# Altium schematic symbol library M_Derogarian Altium Library.SchLib: 43 symbols
Pins are listed as number, name and electrical type; pins without a type are passive.

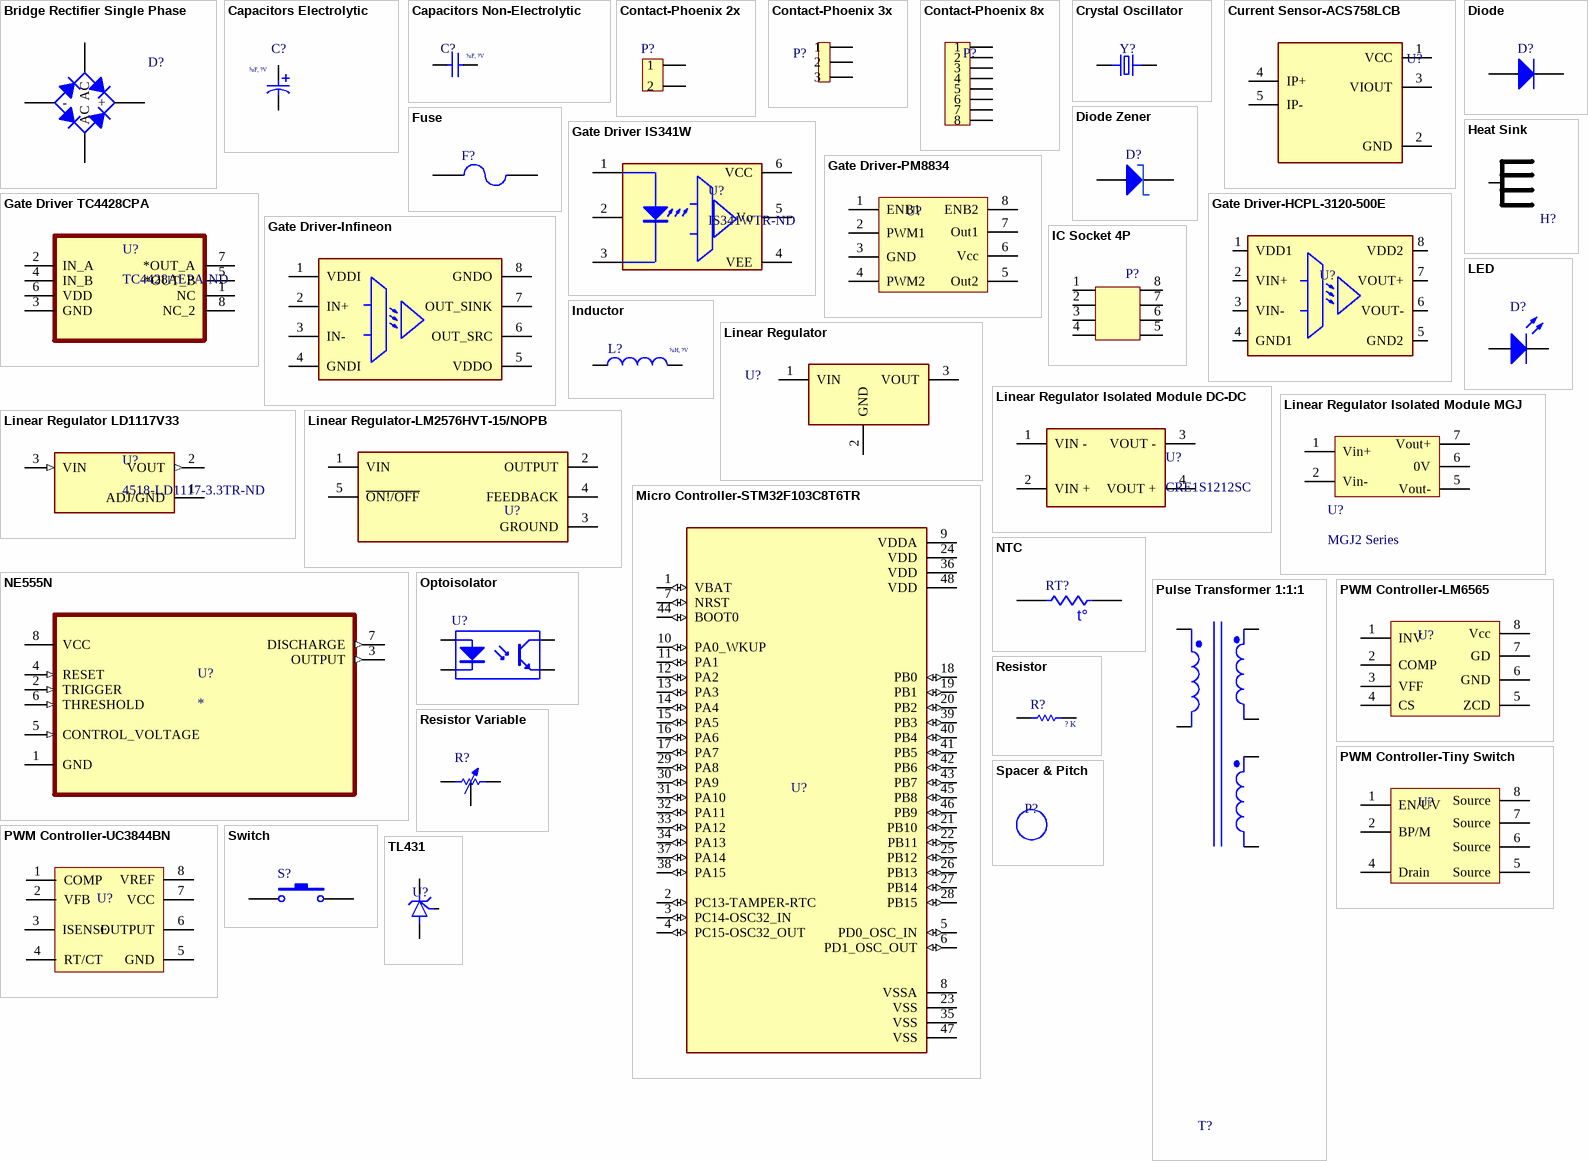
[diagram p0: symbols Bridge Rectifier Single Phase to TL431]

## Bridge Rectifier Single Phase
designator D?, comment (DIGIKEY Part Number)  (value not drawn)
Bridge Rectifier Single Phase Standard; Published: 8-Jun-2000; LatestRevisionDate: 29-May-2009; LatestRevisionNote: Sch pins A & K swapped.; DatasheetVersion: E2732B; PackageReference: D-38; Publisher: Altium Limited; PackageDescription: Bridge Rectifier; 4 Terminals; Body 9.4 x 9.4 mm (typ); Pitch 5.08 mm; Supplier 1: Future Electronics; Supplier Part Number 1: 6113720
footprint Bridge Rectifier 1Phase 400V 1A WOG
footprint Bridge Rectifier 1Phase 600V 2A GBJ
footprint Bridge Rectifier 1Phase 600V 10A GBJ
pins: 1 AC, 2 AC, 3 -, 4 +

## Capacitors Electrolytic
designator C?, comment value ?uF, ?V  (hidden comment: (DIGIKEY Part Number))
Aluminum Electrolytic Capacitors; MF: Nichicon; MP: UVR2A471MHD; Price: None; Package: Radial Nichicon; SnapEDA_Link: https://www.snapeda.com/parts/UVR2A471MHD/Nichicon/view-part/2302933/?ref=snap; Availability: Unavailable; Supplier 1: Digi-Key; Supplier Part Number 1: 1189-2012-ND
footprint Capacitor Aluminum Electrolytic DIP 5*7.5*2.5
footprint Capacitor Aluminum Electrolytic DIP 5*12*2.5
footprint Capacitor Aluminum Electrolytic DIP 7.5*7.5*2.5
footprint Capacitor Aluminum Electrolytic DIP 8*11.5*3.5
footprint Capacitor Aluminum Electrolytic DIP 10*13*5
footprint Capacitor Aluminum Electrolytic DIP 10*16.5*5
footprint Capacitor Aluminum Electrolytic DIP 10*20*5
footprint Capacitor Aluminum Electrolytic DIP 12.5*27*5
footprint Capacitor Aluminum Electrolytic DIP 20*31*10
footprint Capacitor Aluminum Electrolytic DIP 20*36.5*10
footprint Capacitor Aluminum Electrolytic DIP 35*40*10
footprint Capacitor Aluminum Electrolytic DIP 35*50*10
footprint Capacitor Aluminum Electrolytic DIP 20*40*10
pins: 1, 2

## Capacitors Non-Electrolytic
designator C?, comment value ?uF, ?V  (hidden comment: (DIGIKEY Part Number))
Ceramic & Polyester Capacitor
footprint Capacitor Ceramic Lens DIP
footprint Capacitor Ceramic Multilayer DIP
footprint Capacitor Ceramic SMD 805
footprint Capacitor Ceramic SMD 1206
footprint Capacitor Polyester High Voltage DIP
footprint Capacitor Film DIP 01
footprint Capacitor Film DIP 02
footprint Capacitor Film DIP 03
footprint Capacitor Film DIP 04
footprint Capacitor Film DIP 05
footprint Capacitor Film DIP 06
pins: 1, 2

## Contact-Phoenix 2x
designator P?, comment (DIGIKEY Part Number)  (value not drawn)
Contact-Phoenix 2x; Manufacturer: Phoenix Contact; Manufacturer Part Number: 1715721; Max Current Rating: 22A; Number of Poles: 2; Voltage Rating: 400V; Max Supply Voltage: 250V; Current Rating: 17.5A; Number of Levels: 1; Current: 15A; Voltage: 300V; Connector Type: Screw,Terminal Block,PCB; Test Voltage: 4kV; Wire Gauge (Max): 26AWG; Wire/Cable Gauge: 14AWG; Pitch: 5.08mm; Stripping Length: 7mm; Approvals: UL,CSA,cULus,EAC; Supplier 1: Digi-Key; RoHS: Yes; Category: Terminal Blocks; Stock 1: 4962; Pricing 1: 1=1.39000, 10=1.33400, 50=1.27600, 100=1.24120, 250=1.16000, 500=1.06720, 1000=0.98600, 2500=0.93960, 5000=0.89320 (USD); Mount: Through Hole; Number of Pins: 2; Color: Green; Weight: 0.103705oz; Housing Color: Green; Housing Material: Polyamide; Insulation Material: Nylon; Contact Material: Tin; Min Operating Temperature: -20°C; Max Operating Temperature: 100°C; Number of Rows: 1; Package Quantity: 50; Voltage Rating (AC): 250V; Packaging: Bulk; Number of Positions: 2; Termination: Screw; Number of Positions Per Level: 2; Number of Contacts: 2; Number of Circuits: 2; Orientation: Straight; Series: MKDS; Length: 10.16mm; Width: 17.3mm; Height: 17.3mm; Wire Gauge (Min): 26AWG; Depth: 9.8mm; Radiation Hardening: No; REACH SVHC: No SVHC; Lead Free: Lead Free; Flammability Rating: UL94 V-0; RoHS Compliant: Yes; ComponentLink1URL: https://datasheet.ciiva.com/16046/1715721-16046034.pdf?src-supplier=Onlinecomponents.com; ComponentLink1Description: https://datasheet.ciiva.com/16046/1715721-16046034.pdf?src-supplier=Onlinecomponents.com; ComponentLink2URL: https://datasheet.ciiva.com/1120/1697161-1120393.pdf?src-supplier=Farnell; ComponentLink2Description: https://datasheet.ciiva.com/1120/1697161-1120393.pdf?src-supplier=Farnell; ComponentLink3URL: https://datasheet.ciiva.com/15169/getdatasheetpartid-212174-15169929.pdf?src-supplier=Verical; ComponentLink3Description: https://datasheet.ciiva.com/15169/getdatasheetpartid-212174-15169929.pdf?src-supplier=Verical; ComponentLink4URL: https://datasheet.ciiva.com/832/1715721-832095.pdf?src-supplier=Digi-Key; ComponentLink4Description: https://datasheet.ciiva.com/832/1715721-832095.pdf?src-supplier=Digi-Key; Supplier Part Number 1: 277-1263-ND
footprint Phoenix Contact 2x Male Straight
footprint Header 01 1x2
footprint Phoenix Contact 2x2 Male Straight
pins: 1 (power), 2 (power)

## Contact-Phoenix 3x
designator P?, comment (DIGIKEY Part Number)  (value not drawn)
Contact-Phoenix 3x; Manufacturer: Phoenix Contact; Manufacturer Part Number: 1888690; Number of Poles: 3; Current Rating: 16A; Voltage Rating: 400V; Number of Levels: 1; Current: 20A; Voltage: 300V; Connector Type: Screw; Wire Gauge (Max): 30AWG; Wire Gauge (Min): 12AWG; Pitch: 5.08mm; Approvals: UL,VDE,cULus,CB,EAC; Supplier 1: RSComponents; RoHS: Yes; Category: Terminal Blocks; Stock 1: 1; Pricing 1: 250=1.46600 (USD); Mount: Through Hole; Number of Pins: 3; Color: Green; Weight: 0.153442oz; Housing Color: Green; Housing Material: Nylon; Contact Material: Tin; Package Quantity: 50; Packaging: Bulk; Number of Positions Per Level: 3; Termination: Screw; Number of Positions: 3; Number of Contacts: 3; Number of Circuits: 3; Orientation: Straight; Series: COMBICON MKDSN; Length: 9.5mm; Width: 18.5mm; Height: 15.24mm; Wire/Cable Gauge: 30AWG; Lead Free: Lead Free; Flammability Rating: UL94 V-0; REACH SVHC: Unknown; ComponentLink1URL: https://datasheet.ciiva.com/16047/1888690-16047140.pdf?src-supplier=Onlinecomponents.com; ComponentLink1Description: https://datasheet.ciiva.com/16047/1888690-16047140.pdf?src-supplier=Onlinecomponents.com; ComponentLink2URL: https://datasheet.ciiva.com/6745/1888690-6745529.pdf?src-supplier=Digi-Key; ComponentLink2Description: https://datasheet.ciiva.com/6745/1888690-6745529.pdf?src-supplier=Digi-Key; Supplier Part Number 1: 8717582
footprint Phoenix Contact 3x Male Straight
footprint Header 01 1x3
pins: 1 (power), 2 (power), 3 (power)

## Contact-Phoenix 8x
designator P?, comment (DIGIKEY Part Number)  (value not drawn)
Contact-Phoenix 8x; Manufacturer: Phoenix Contact; Manufacturer Part Number: 1758076; Max Current Rating: 12A; Voltage Rating (DC): 250V; Number of Poles: 8; Number of Levels: 1; Voltage: 300V; Pitch: 5.08mm; Pin Diameter: 1.4mm; Approvals: UL,CSA; Supplier 1: Digi-Key; RoHS: Yes; Category: Terminal Blocks; Stock 1: 41; Pricing 1: 1=2.75000, 10=2.62900, 50=2.55720, 100=2.39000, 250=2.19880, 500=2.03150, 1000=1.93590, 2500=1.84030 (USD); Mount: Through Hole; Contact Plating: Tin; Weight: 5.43219oz; Contact Material: Tin,Copper; Housing Color: Green; Housing Material: Polybutylene; Color: Green,Grey; Termination: Solder; Package Quantity: 50; Packaging: Bulk; Number of Rows: 1; Current Rating: 12A; Orientation: Straight; Series: MSTBV; Voltage Rating: 250V; Number of Positions Per Level: 8; Current: 12A; Number of Positions: 8; Number of Contacts: 8; Length: 40.64mm; Width: 40.64mm; Height: 15.9mm; Depth: 8.6mm; Lead Free: Lead Free; RoHS Compliant: Yes; Flammability Rating: UL94 V-0; ComponentLink1URL: https://datasheet.ciiva.com/16096/1758076-16096453.pdf?src-supplier=Onlinecomponents.com; ComponentLink1Description: https://datasheet.ciiva.com/16096/1758076-16096453.pdf?src-supplier=Onlinecomponents.com; ComponentLink2URL: https://datasheet.ciiva.com/15197/getdatasheetpartid-176364-15197352.pdf?src-supplier=Verical; ComponentLink2Description: https://datasheet.ciiva.com/15197/getdatasheetpartid-176364-15197352.pdf?src-supplier=Verical; ComponentLink3URL: https://datasheet.ciiva.com/796/1758076-796755.pdf?src-supplier=Digi-Key; ComponentLink3Description: https://datasheet.ciiva.com/796/1758076-796755.pdf?src-supplier=Digi-Key; ComponentLink4URL: https://datasheet.ciiva.com/29212/743684-da-01-de-grundgehaeuse-mstbv-2-5-8-g-5-08-29212227.pdf?src-supplier=Conrad; ComponentLink4Description: https://datasheet.ciiva.com/29212/743684-da-01-de-grundgehaeuse-mstbv-2-5-8-g-5-08-29212227.pdf?src-supplier=Conrad; ComponentLink5URL: https://datasheet.ciiva.com/20205/51-4828-20205398.pdf?src-supplier=Rapid+Electronics; ComponentLink5Description: https://datasheet.ciiva.com/20205/51-4828-20205398.pdf?src-supplier=Rapid+Electronics; Supplier Part Number 1: 277-1134-ND
footprint Phoenix Contact 8x Male Right
pins: 1 (power), 2 (power), 3 (power), 4 (power), 5 (power), 6 (power), 7 (power), 8 (power)

## Crystal Oscillator
designator Y?, comment (DIGIKEY Part Number)  (value not drawn)
Crystal Oscillator; MF: ECS Inc.; MP: ECS-80-18-1X; SnapEDA_Link: https://www.snapeda.com/parts/ECS-80-18-1X/ECS%20Inc./view-part/2730598/?ref=snap; Price: None; Package: HC49/U ECS International; Availability: Unavailable; Value: *
footprint Crystal Oscillator DIP 01
footprint Crystal Oscillator SMD 01
footprint Crystal Oscillator SMD 02
pins: 1, 2

## Current Sensor-ACS758LCB
designator U?, comment ACS758LCB-100B-PFF-T  (value not drawn)
Open Loop Current Sensor AC/DC Current 5V Automotive 5-Pin Case CB-PFF Tube; Manufacturer: Allegro MicroSystems; Max Supply Voltage: 5.5V; Min Supply Voltage: 3V; Output Current: 1mA; Number of Channels: 1; Frequency: 120kHz; Response Time: 4us; Max Supply Current: 13.5mA; Polarity: Bidirectional; Quiescent Current: 10mA; Linearity: 1.25%; Accuracy: 2.4%; Current Sensing: 100A; Sensitivity: 20mV/A; Supplier 1: RSComponents; Manufacturer Part Number: ACS758LCB-100B-PFF-T; RoHS: Yes; Category: Current Sensors; Stock 1: 12; Pricing 1: 1=8.18000, 25=6.70000, 100=5.66000, 250=4.92000, 500=4.71000 (GBP); Mount: Through Hole; Number of Pins: 5; Min Operating Temperature: -40°C; Max Operating Temperature: 150°C; Operating Supply Voltage: 5V; Packaging: Rail/Tube; Package Quantity: 34; Bandwidth: 120kHz; Series: -; Length: 10mm; Width: 13mm; Height: 7mm; Radiation Hardening: No; REACH SVHC: No SVHC; RoHS Compliant: Yes; ComponentLink1URL: https://datasheet.ciiva.com/15099/getdatasheetpartid-480093-15099510.pdf?src-supplier=Verical; ComponentLink1Description: https://datasheet.ciiva.com/15099/getdatasheetpartid-480093-15099510.pdf?src-supplier=Verical; ComponentLink2URL: https://datasheet.ciiva.com/1578/acs758-datasheet-1578386.pdf?src-supplier=Farnell; ComponentLink2Description: https://datasheet.ciiva.com/1578/acs758-datasheet-1578386.pdf?src-supplier=Farnell; ComponentLink3URL: https://datasheet.ciiva.com/3271/acs756-datasheet-3271998.pdf?src-supplier=Avnet; ComponentLink3Description: https://datasheet.ciiva.com/3271/acs756-datasheet-3271998.pdf?src-supplier=Avnet; Supplier Part Number 1: 6807557
footprint Current Sensor XDCR_ACS770KCB-150U-PFF-T
pins: 1 VCC (power), 2 GND (power), 3 VIOUT (power), 4 IP+ (power), 5 IP- (power)

## Diode
designator D?, comment (DIGIKEY Part Number)  (value not drawn)
Through Hole & SMD Diode; Published: 8-Jun-2000; LatestRevisionDate: 17-Jul-2002; LatestRevisionNote: Re-released for DXP Platform.; DatasheetVersion: Aug-1984; PackageReference: DO-201AD; Publisher: Altium Limited; PackageDescription: Diode, Axial; Body 9.5 x 5.3 mm (LxDia. max), Lead Dia. 1.32 mm (max); ComponentLink1Description: Manufacturer Link; ComponentLink1URL: http://www.irf.com/
footprint Diode DIP DO-41 01
footprint Diode DIP DO-41 02
footprint Diode DIP TO-247
footprint Diode SMD DO-214
footprint Diode SMD Mini-MELF 01
footprint Diode SMD Mini-MELF 02
footprint Diode SMD POWERDI5
footprint Diode SMD SOD-123
footprint Diode DIP ITO-220AC
footprint Diode SMD TO-252 (DPAK)
pins: 1 A, 2 K

## Diode Zener
designator D?, comment (DIGIKEY Part Number)  (value not drawn)
Through Hole & SMD Zener Diode; Note: Terminal 2 is the TAB and is electrically connected to the cathode; Published: 8-Jun-2000; LatestRevisionDate: 17-Jul-2002; LatestRevisionNote: Re-released for DXP Platform.; DatasheetVersion: Dec-1997; PackageVersion: Feb-1998; PackageReference: TO-220AC; Publisher: Altium Limited; PackageDescription: TO, Thru-Hole, Vertical, Heatsink Mounted; 3 In-Line Leads (1 Absent); Pitch 2.54 mm; ComponentLink1Description: Manufacturer Link; ComponentLink1URL: http://www.irf.com/; ComponentLink2Description: Datasheet; ComponentLink2URL: http://www.irf.com/product-info/datasheets/data/18tq.pdf
footprint Diode Zener DIP
footprint Diode Zener SMD Mini-MELF 01
footprint Diode Zener SMD Mini-MELF 02
footprint Diode Zener SMD Mini-MELF 03
footprint Diode Zener SMD SOD-123 01
footprint Diode Zener SMD DO-214AC
pins: 1 A, 2 K

## Fuse
designator F?, comment (DIGIKEY Part Number)  (value not drawn)
Fuse, Circuit Protection; Published: 8-Jun-2000; LatestRevisionDate: 17-Jul-2002; LatestRevisionNote: Re-released for DXP Platform.; PackageReference: PIN-W2/E2.8; Publisher: Altium Limited; PackageDescription: Thru-Hole; 2 Leads; Supplier 1: Digi-Key; Supplier Part Number 1: 031501.2HXP-ND
footprint Fuse Full DIP 02
footprint Fuse DIP 01
footprint Fuse Full DIP 01
footprint Fuse Right DIP 01
pins: 1, 2

## Gate Driver IS341W
designator U?, comment IS341WTR-ND
Photocoupler is ideally suited for driving power IGBTs and MOSFETs; Manufacturer: Isocom; Manufacturer Part Number: IS341W; Supplier: Digikey; Supplier Part Number: IS341WCT-ND; RoHS: Yes; Stock: 232; Pricing: 1=2.2, 10=1.429, 100=1.0327, 500=0.87664 (USD); ComponentLink1URL: http://isocom.com/wp-content/uploads/2017/08/DD93205_IS341W_17-01-17.pdf?src-supplier=Digikey; ComponentLink1Description: http://isocom.com/wp-content/uploads/2017/08/DD93205_IS341W_17-01-17.pdf?src-supplier=Digikey
footprint Gate Driver IS341W SO6 Stretched
pins: 1, 2, 3, 4 VEE, 5 Vo, 6 VCC

## Gate Driver TC4428CPA
designator U?, comment TC4428AEPA-ND
Low-Side Gate Driver IC Inverting, Non-Inverting 8-PDIP; MP: TC4428CPA; MF: Microchip; Digi-Key_Part_Number: TC4428CPA-ND; Package: DIP-8 Microchip; SnapEDA_Link: https://www.snapeda.com/parts/TC4428CPA/Microchip/view-part/442163/?ref=snap; Value: *
footprint Gate Driver TC4428AEPA DIP 01
pins: 1 NC, 2 IN_A, 3 GND, 4 IN_B, 5 *OUT_B, 6 VDD (power), 7 *OUT_A, 8 NC_2

## Gate Driver-HCPL-3120-500E
designator U?, comment HCPL-3120-500E  (value not drawn)
OPTOISO 3.75KV GATE DRVR 8DIP GW; Manufacturer: Broadcom Avago; Propagation Delay: 500ns; Number of Channels: 1; Forward Voltage: 1.5V; High Level Output Current: 2A; Pulse Width Distortion (PWD): 300ns; Max Output Current: 2.5A; Max Power Dissipation: 295mW; Direction: Unidirectional; Forward Current: 25mA; Reverse Breakdown Voltage: 5V; Output Voltage: 30V; Fall Time: 0.1us; Input Current: 16mA; Output Type: PUSH-PULL; Input Type: DC; Approvals: UR,CSA; Supplier 1: Newark; Manufacturer Part Number: HCPL-3120-500E; RoHS: Yes; Category: Optocouplers; Stock 1: 3; Pricing 1: 1=4.16000, 10=2.95000, 25=2.76000, 50=2.59000 (USD); Mount: Surface Mount; Case/Package: SMD/SMT; Number of Pins: 8; Contact Plating: Tin,Matte; Min Operating Temperature: -40°C; Max Operating Temperature: 100°C; Packaging: Tape and Reel; Low Level Output Current: 2A; Isolation Voltage: 3.75kV; Package Quantity: 1; Turn-On Delay Time: 500ns; Power Dissipation: 295mW; Number of Elements: 1; Series: -; Radiation Hardening: No; REACH SVHC: No SVHC; Lead Free: Lead Free; RoHS Compliant: Yes; ComponentLink1URL: https://datasheet.ciiva.com/34302/1550485-34302471.pdf?src-supplier=Jameco; ComponentLink1Description: https://datasheet.ciiva.com/34302/1550485-34302471.pdf?src-supplier=Jameco; ComponentLink2URL: https://datasheet.ciiva.com/15119/getdatasheetpartid-111146-15119641.pdf?src-supplier=Verical; ComponentLink2Description: https://datasheet.ciiva.com/15119/getdatasheetpartid-111146-15119641.pdf?src-supplier=Verical; Supplier Part Number 1: 52M7954
footprint Gate Driver HCPL3120 SMD 01
footprint Gate Driver HCPL3120 DIP 01
pins: 1 VDD1 (power), 2 VIN+ (power), 3 VIN- (power), 4 GND1 (power), 5 GND2 (power), 6 VOUT- (power), 7 VOUT+ (power), 8 VDD2 (power)

## Gate Driver-Infineon
designator U?, comment 1EDB8275FXUMA1  (value not drawn)
Gate Driver Ic, 1-Ch, 3V-15V, 9.8A, Dso Rohs Compliant: Yes |Infineon 1EDB8275FXUMA1; Fall Time: 5ns; Max Supply Voltage: 15V; Min Supply Voltage: 3V; Number of Drivers: 1NUMBER; Output Current: 9A; Output Voltage: 20V; Propagation Delay: 45ns; Rise Time: 8.3ns; Supplier: Mouser; Supplier Part Number: 726-1EDB8275FXUMA1; Manufacturer: Infineon; Manufacturer Part Number: 1EDB8275FXUMA1; RoHS: No; Stock: 9492; Pricing: 1=1.9, 10=1.28, 50=1.28, 100=1.14, 1000=0.999, 10000=0.952 (USD); Min Operating Temperature: -40°C; Max Operating Temperature: 150°C; Number of Outputs: 1NUMBER; Height: 1.75mm
footprint Gate Driver 1EDB8275FXUMA1 SMD 01
pins: 1 VDDI, 2 IN+, 3 IN-, 4 GNDI, 5 VDDO, 6 OUT_SRC, 7 OUT_SINK, 8 GNDO

## Gate Driver-PM8834
designator U?, comment IC GATE DRVR LOW-SIDE 8SOIC  (value not drawn)
Low-Side Gate Driver IC Non-Inverting 8-SOIC; Supplier 1: RSComponents; Supplier Part Number 1: 1465693
footprint Gate Driver PM8834 SMD SO-8
pins: 1 ENB1, 2 PWM1, 3 GND, 4 PWM2, 5 Out2, 6 Vcc, 7 Out1, 8 ENB2

## Heat Sink
designator H?, comment (DIGIKEY Part Number)  (value not drawn)
Heat Sink TO-220 Aluminum 20.0W @ 60Â°C Board Level, Vertical; MP: 530002B02500G; MF: Aavid Thermalloy; Value: *; SnapEDA_Link: https://www.snapeda.com/parts/530002B02500G/Aavid+Thermalloy/view-part/?ref=snap; Purchase-URL: https://pricing.snapeda.com/search/part/530002B02500G/?ref=eda; Check_prices: https://www.snapeda.com/parts/530002B02500G/Aavid+Thermalloy/view-part/?ref=eda; Availability: In Stock; Price: None; Package: None
footprint HEATSINK 01
footprint HEATSINK 02
footprint HEATSINK 03
footprint HEATSINK 05
footprint HEATSINK 04

## IC Socket 4P
designator P?, comment (DIGIKEY Part Number)  (value not drawn)
4*2 IC Socket
footprint IC Socket 4*2P
pins: 1, 2, 3, 4, 5, 6, 7, 8

## Inductor
designator L?, comment value ?uH, ?V  (hidden comment: (DIGIKEY Part Number))
Inductor; Code_IEC: 1005; Published: 8-Jun-2000; LatestRevisionDate: 29-May-2009; LatestRevisionNote: IPC-7351 Footprint Added.; PackageReference: 0402-A; Publisher: Altium Limited; PackageDescription: Chip Inductor; Code_JEITA: 0402
footprint Inductor DIP 01
footprint Inductor DIP 02
footprint Inductor DIP Axial
pins: 1, 2

## LED
designator D?, comment (DIGIKEY Part Number)  (value not drawn)
Typical RED, GREEN, YELLOW, AMBER GaAs LED; Published: 8-Jun-2000; LatestRevisionDate: 17-Jul-2002; LatestRevisionNote: Re-released for DXP Platform.; PackageVersion: Feb-2002; PackageReference: 3.2X1.6X1.1; Publisher: Altium Limited; PackageDescription: SM LED; 2 Flat Leads
footprint LED DIP 01
footprint LED SMD 805 01
pins: 1 A, 2 K

## Linear Regulator
designator U?, comment (DIGIKEY Part Number)  (value not drawn)
Voltage Regulators - Linear, Low Drop Out (LDO) Regulators; Manufacturer: STMicroelectronics; Manufacturer Part Number: LD1117DT33; Dropout Voltage: 1.1V; Max Input Voltage: 15V; Output Current: 950mA; Number of Outputs: 1; Max Power Dissipation: 12W; Output Voltage: 3.3V; Min Input Voltage: 5.3V; Max Output Current: 800mA; Min Supply Voltage: 4.75V; Input Bias Current: 5mA; Polarity: Positive; Quiescent Current: 10mA; Output Voltage Accuracy: 1%; Output Type: Fixed; Supplier 1: Mouser; RoHS: Yes; Category: Voltage Regulators - Linear; Mount: Surface Mount; Case/Package: TO-252; Number of Pins: 3; Min Operating Temperature: 0°C; Max Operating Temperature: 125°C; Package Quantity: 75; Packaging: Rail/Tube; Max Supply Voltage: 15V; Nominal Output Voltage: 3.3V; Number of Regulators: 1; Power Dissipation: 12W; Max Output Voltage: 3.3V; Termination: SMD/SMT; Voltage: 3.3V; REACH SVHC: No SVHC; RoHS Compliant: Yes; ComponentLink1URL: https://datasheet.ciiva.com/2070/cd00000544-2070990.pdf?src-supplier=Digi-Key; ComponentLink1Description: https://datasheet.ciiva.com/2070/cd00000544-2070990.pdf?src-supplier=Digi-Key; Supplier Part Number 1: 511-LD1117DT33
footprint Linear Regulator SMD TO-252-3
footprint Linear Regulator SMD TO-263
footprint Linear Regulator DIP TO-220-3
pins: 1 VIN (power), 2 GND (power), 3 VOUT (power)

## Linear Regulator Isolated Module DC-DC
designator U?, comment CRE1S1212SC
Module DC-DC 12VIN 1-OUT 12V 0.083A 1W 4-Pin SIP Module Tube; Manufacturer: Murata; Supplier: Mouser; Supplier Part Number: 580-CRE1S1212SC; Manufacturer Part Number: CRE1S1212SC; RoHS: Yes; Category: Board Mount Modules; Stock: 95; Pricing: 1=2.98, 10=2.94, 50=2.66, 100=2.66, 1000=2.52, 10000=2.52 (USD); ComponentLink1URL: http://www.farnell.com/datasheets/2625583.pdf?src-supplier=Farnell; ComponentLink1Description: http://www.farnell.com/datasheets/2625583.pdf?src-supplier=Farnell; ComponentLink2URL: http://www.farnell.com/datasheets/2625583.pdf?src-supplier=Newark; ComponentLink2Description: http://www.farnell.com/datasheets/2625583.pdf?src-supplier=Newark; ComponentLink3URL: https://datasheet.octopart.com/CRE1S1212SC-Murata-Power-Solutions-datasheet-68519345.pdf?src-supplier=Element14; ComponentLink3Description: https://datasheet.octopart.com/CRE1S1212SC-Murata-Power-Solutions-datasheet-68519345.pdf?src-supplier=Element14; ComponentLink4URL: https://power.murata.com/data/power/ncl/kdc_cre1.pdf?src-supplier=Digikey; ComponentLink4Description: https://power.murata.com/data/power/ncl/kdc_cre1.pdf?src-supplier=Digikey; ComponentLink5URL: https://datasheet.octopart.com/CRE1S1212SC-Murata-Power-Solutions-datasheet-159768755.pdf?src-supplier=TME; ComponentLink5Description: https://datasheet.octopart.com/CRE1S1212SC-Murata-Power-Solutions-datasheet-159768755.pdf?src-supplier=TME
footprint Linear Regulator Isolated Module DC-DC DIP 01
pins: 1 VIN - (power), 2 VIN + (power), 3 VOUT - (power), 4 VOUT + (power)

## Linear Regulator Isolated Module MGJ
designator U?, comment MGJ2 Series
Module DC-DC 12VIN 2-OUT 15V/-5V 0.08A/0.04A 2W 5-Pin SIP Module; Manufacturer: Murata; Manufacturer Part Number: MGJ2D121505SC; Max Input Voltage: 13.2V; Min Input Voltage: 10.8V; Number of Outputs: 2; Voltage - Output 1: 15V; Voltage - Output 2: -5V; Max Output Current: 40mA; Isolation Voltage: 5.2kV; Efficiency: 80%; Current - Output 1: 80mA; Nominal Input Voltage: 12V; Max Power Dissipation: 1W; Stock 1: 0; Pricing 1: 1=8.46, 5=8.42, 10=8.36, 25=8.27, 50=8.06, 100=7.66, 250=7.17, 500=6.68, 1000=6.65 (USD); Mount: Through Hole; Case/Package: SIP; Number of Pins: 5; Weight: 0.151678oz; Min Operating Temperature: -40°C; Max Operating Temperature: 100°C; Packaging: Rail/Tube; Output Power: 2W; Max Input Voltage (DC): 13.2V; Min Input Voltage (DC): 10.8V; Max Output Power: 2W; Current - Output 2: 40mA; Output Voltage: 15V; Output Current: 80mA; Package Quantity: 25; Features: SCP; Length: 0.77inch; Width: 0.39inch; Height: 0.5inch; Depth: 19.65mm; Radiation Hardening: No; REACH SVHC: No SVHC; RoHS Compliant: Yes; ComponentLink1URL: http://www.farnell.com/datasheets/1965123.pdf?src-supplier=Element14; ComponentLink1Description: http://www.farnell.com/datasheets/1965123.pdf?src-supplier=Element14; ComponentLink2URL: http://power.murata.com/data/power/ncl/kdc_mgj2.pdf?src-supplier=Avnet; ComponentLink2Description: http://power.murata.com/data/power/ncl/kdc_mgj2.pdf?src-supplier=Avnet; Supplier 1: Mouser; Supplier Part Number 1: 580-MGJ2D122005SC
footprint Linear Regulator Isolated Module DC-DC DIP 02
pins: 1 Vin+, 2 Vin-, 5 Vout-, 6 0V, 7 Vout+

## Linear Regulator LD1117V33
designator U?, comment 4518-LD1117-3.3TR-ND
LD1117 Series 1300 mA 3.3 V Fixed Output Positive Voltage LDO Regulator - TO-220; Manufacturer: STMicroelectronics; Manufacturer Part Number: LD1117V33; Number of Channels: 1NUMBER; Dropout Voltage: 1.1V; Output Current: 1.3A; Max Supply Voltage: 15V; Number of Outputs: 1; Output Voltage: 3.3V; Max Power Dissipation: 12W; Input Bias Current: 5mA; Quiescent Current: 10mA; Accuracy: 1%; Power Supply Rejection Ratio (PSRR): 75dB; Supplier: Mouser; Supplier Part Number: 511-LD1117V33; RoHS: Yes; Category: Voltage Regulators - Linear; Stock: 2560; Pricing: 1=0.56, 10=0.365, 50=0.365, 100=0.331, 1000=0.31, 10000=0.264 (USD); Mounting Technology: Through Hole; Case/Package: TO; Pins: 3; Min Operating Temperature: 0°C; Max Operating Temperature: 125°C; Max Output current: 1.3A; Package Quantity: 1000; Packaging: Rail/Tube; Nominal Output Voltage: 3.3V; Number of Regulators: 1; Polarity: Positive; Power Dissipation: 12W; Output Voltage Accuracy: 1%; Output Type: Fixed; Series: -; Output Configuration: Positive; Min Output Voltage: 3.3V; Supply Current: 5mA; Nominal Supply Voltage: 3.3V; Length: 10.4mm; Width: 4.6mm; Height: 9.15mm; Radiation Hardening: No; Lead Free: Lead Free; Reach SVHC Compliant: No; RoHS Compliant: Yes
footprint Linear Regulator LD1117 SMD DPAK
footprint Linear Regulator LD1117 SMD SOT-223
footprint Linear Regulator LD1117 DIP TO-255
pins: 1 ADJ/GND, 2 VOUT (out), 3 VIN (in)

## Linear Regulator-LM2576HVT-15/NOPB
designator U?  (value not drawn)
SIMPLE SWITCHER® 4V to 60V, 3A Low Component Count Step-Down Regulator 5-TO-220 -40 to 125; Manufacturer: TI National Semiconductor; Manufacturer Part Number: LM2576HVT-15/NOPB; Number of Outputs: 1; Output Voltage: 15V; Efficiency: 88%; Frequency: 52kHz; Switching Frequency: 58kHz; Max Output Voltage: 15.83V; Min Output Voltage: 14.25V; Quiescent Current: 5mA; Output Type: Fixed; Supplier 1: Digi-Key; RoHS: Yes; Category: Voltage Regulators - Switching; Stock 1: 292; Pricing 1: 1=7.10000, 10=6.41800, 25=6.11920, 100=5.31320, 250=5.07444, 500=4.92800 (USD); Mount: Through Hole; Case/Package: TO-220; Number of Pins: 5; Min Operating Temperature: -40°C; Max Operating Temperature: 125°C; Max Supply Voltage: 60V; Min Supply Voltage: 4V; Max Output Current: 3A; Output Current: 3A; Packaging: Rail/Tube; Min Input Voltage: 4V; Max Input Voltage: 60V; Package Quantity: 45; Nominal Output Voltage: 15V; Termination: Through Hole; Series: LM2576HV; Length: 10.67mm; Width: 4.83mm; Height: 16.51mm; Radiation Hardening: No; REACH SVHC: No SVHC; Lead Free: Lead Free; RoHS Compliant: Yes; ComponentLink1URL: https://datasheet.ciiva.com/15112/getdatasheetpartid-97918-15112887.pdf?src-supplier=Verical; ComponentLink1Description: https://datasheet.ciiva.com/15112/getdatasheetpartid-97918-15112887.pdf?src-supplier=Verical; ComponentLink2URL: https://datasheet.ciiva.com/3219/lm2576-3219925.pdf?src-supplier=Avnet; ComponentLink2Description: https://datasheet.ciiva.com/3219/lm2576-3219925.pdf?src-supplier=Avnet; ComponentLink3URL: https://datasheet.ciiva.com/22669/1849802-22669439.pdf?src-supplier=Element14; ComponentLink3Description: https://datasheet.ciiva.com/22669/1849802-22669439.pdf?src-supplier=Element14; Supplier Part Number 1: LM2576HVT-15/NOPB-ND
footprint Linear Regulator LM2576HVT DIP TO-220 01
footprint Linear Regulator LM2576HVT SMD DDPAK/TO-263 01
pins: 1 VIN (power), 2 OUTPUT (power), 3 GROUND (power), 4 FEEDBACK (power), 5 ~{ON!/OFF} (power)

## Micro Controller-STM32F103C8T6TR
designator U?, comment STM32F103C8T6TR  (value not drawn)
MCU 32-bit STM32F ARM Cortex M3 RISC 64KB Flash 2.5V/3.3V 48-Pin LQFP T/R; Manufacturer: STMicroelectronics; Interface: I2C,SPI,USB,CAN,USART; RAM Size: 20KB; Max Power Dissipation: 363mW; Number of I/Os: 37; Number of Timers/Counters: 4; Frequency: 72MHz; Max Supply Voltage: 3.6V; Min Supply Voltage: 2V; Number of ADC Channels: 10; Oscillator Type: Internal; Data Bus Width: 32b; Watchdog Timer: Yes; Peripherals: POR,PWM,WDT,DMA,Temp Sensor,I2C; Supplier 1: Newark; Manufacturer Part Number: STM32F103C8T6TR; RoHS: Yes; Category: Microcontrollers; Pricing 1: 1=7.35000, 10=6.60000, 25=6.25000 (USD); Case/Package: LQFP; Number of Pins: 48; Weight: 0.006409oz; Contact Plating: Gold; Min Operating Temperature: -40°C; Max Operating Temperature: 85°C; Package Quantity: 2400; Packaging: Tape and Reel; Number of Programmable I/O: 37; Max Frequency: 72MHz; Memory Type: FLASH; Memory Size: 64KB; Core Architecture: ARM; Series: STM32F103C8; Width: 7mm; Height: 1.4mm; Radiation Hardening: No; Lead Free: Lead Free; RoHS Compliant: Yes; ComponentLink1URL: https://datasheet.ciiva.com/16490/cd00161566-16490885.pdf?src-supplier=Future+Electronics; ComponentLink1Description: https://datasheet.ciiva.com/16490/cd00161566-16490885.pdf?src-supplier=Future+Electronics; ComponentLink2URL: https://datasheet.ciiva.com/12270/cd00161566-12270635.pdf?src-supplier=Mouser; ComponentLink2Description: https://datasheet.ciiva.com/12270/cd00161566-12270635.pdf?src-supplier=Mouser; Supplier Part Number 1: 07AH7012
footprint STM32F103C8T6 (ARM® Cortex®-M3 STM32F1 Microcontroller IC 32-Bit 72MHz 64KB)
pins: 1 VBAT (io), 2 PC13-TAMPER-RTC (io), 3 PC14-OSC32_IN (io), 4 PC15-OSC32_OUT (io), 5 PD0_OSC_IN (io), 6 PD1_OSC_OUT (io), 7 NRST (io), 8 VSSA (power), 9 VDDA (power), 10 PA0_WKUP (io), 11 PA1 (io), 12 PA2 (io), 13 PA3 (io), 14 PA4 (io), 15 PA5 (io), 16 PA6 (io), 17 PA7 (io), 18 PB0 (io), 19 PB1 (io), 20 PB2 (io), 21 PB10 (io), 22 PB11 (io), 23 VSS (power), 24 VDD (power), 25 PB12 (io), 26 PB13 (io), 27 PB14 (io), 28 PB15 (io), 29 PA8 (io), 30 PA9 (io), 31 PA10 (io), 32 PA11 (io), 33 PA12 (io), 34 PA13 (io), 35 VSS (power), 36 VDD (power), 37 PA14 (io), 38 PA15 (io), 39 PB3 (io), 40 PB4 (io), 41 PB5 (io), 42 PB6 (io), 43 PB7 (io), 44 BOOT0 (io), 45 PB8 (io), 46 PB9 (io), 47 VSS (power), 48 VDD (power)

## NE555N
designator U?
555 Type, Timer/Oscillator (Single) IC 500kHz 8-DIP; MF: STMicroelectronics; MP: NE555N; SnapEDA_Link: https://www.snapeda.com/parts/NE555N/STMicroelectronics/view-part/?ref=snap; Availability: In Stock; Price: None; Value: *; Check_prices: https://www.snapeda.com/parts/NE555N/STMicroelectronics/view-part/?ref=eda; Package: DIP-8 STMicroelectronics; Purchase-URL: https://pricing.snapeda.com/search/part/NE555N/?ref=eda
footprint NE555 DIP-8
footprint NE555 SMD SOIC-8
pins: 1 GND, 2 TRIGGER (in), 3 OUTPUT (out), 4 RESET (in), 5 CONTROL_VOLTAGE (in), 6 THRESHOLD (in), 7 DISCHARGE (out), 8 VCC (power)

## NTC
designator RT?, comment NTC Thermistor  (value not drawn)
Published: 24-Mar-1999; LatestRevisionDate: 29-May-2009; LatestRevisionNote: IPC-7351 Footprint Added.; PackageVersion: Mar-2003; PackageReference: 6-0805; Publisher: Altium Limited; PackageDescription: Chip Resistor 0805 Case Size; Code_IPC: RESC2012; Supplier 1: Digi-Key; Supplier Part Number 1: 495-76311-ND
footprint NTC Thermistor DIP 01
footprint NTC Thermistor DIP 02
pins: 1, 2
text: t°

## Optoisolator
designator U?, comment PS2501-1-H-A  (value not drawn)
Optoisolator Transistor Output 5000Vrms 1 Channel 4-DIP; Published: 24-Mar-1999; LatestRevisionDate: 04-Mar-2005; LatestRevisionNote: Sch pins 3 & 4 Swapped.; DatasheetVersion: Nov-2003; PackageReference: DIP-4; Publisher: Altium Limited; Supplier 1: Digi-Key; Supplier Part Number 1: 559-1070-ND
footprint Optoisolators DIP 01
footprint Optoisolators SMD 01
footprint Optoisolators SMD 02
pins: 1 A "Anode", 2 K "Cathode", 3 E "Emitter", 4 C "Collector"

## Pulse Transformer 1:1:1
designator T?, comment Transformer 8 Output  (value not drawn)
Driver Transformer; Published: 25-Jan-2001; LatestRevisionDate: 17-Jul-2002; LatestRevisionNote: Re-released for DXP Platform.; PackageReference: TRF_8; Publisher: Altium Limited; PackageDescription: Transformer; 8 Leads
footprint Pulse Transformer 01
footprint Pulse Transformer 02
pins: 1, 3, 4, 5, 6, 8

## PWM Controller-LM6565
designator U?, comment ST LM6565  (value not drawn)
Resonant Controller Driver; Supplier 1: RSComponents; Supplier Part Number 1: 1465693
footprint 8 Pin IC DIP Package 01
pins: 1 INV, 2 COMP, 3 VFF, 4 CS, 5 ZCD, 6 GND, 7 GD, 8 Vcc

## PWM Controller-Tiny Switch
designator U?, comment TNY280PN  (value not drawn)
Converter Offline Flyback Topology 132kHz 8-PDIP-C; Supplier 1: RSComponents; Supplier Part Number 1: 1465693
footprint PWM Controller TNY280PN DIP
pins: 1 EN/UV, 2 BP/M, 4 Drain, 5 Source, 6 Source, 7 Source, 8 Source

## PWM Controller-UC3844BN
designator U?, comment UC3844BN  (value not drawn)
Off-Line Controllers 52kHz 1A Current PWM No-Cancel/No-Return; Manufacturer: STMicroelectronics; Supplier: Mouser; Supplier Part Number: 511-UC3844BN; Manufacturer Part Number: UC3844BN; RoHS: Yes; Category: Voltage Regulators - Switching; Stock: 11981; Pricing: 1=0.71, 10=0.501, 50=0.501, 100=0.46, 1000=0.414, 10000=0.38 (USD); ComponentLink1URL: https://datasheet.ciiva.com/15108/getdatasheetpartid-119240-15108173.pdf?src-supplier=Verical; ComponentLink1Description: https://datasheet.ciiva.com/15108/getdatasheetpartid-119240-15108173.pdf?src-supplier=Verical; ComponentLink2URL: https://datasheet.ciiva.com/4875/cd00000966-105506-4875760.pdf?src-supplier=Mouser; ComponentLink2Description: https://datasheet.ciiva.com/4875/cd00000966-105506-4875760.pdf?src-supplier=Mouser; ComponentLink3URL: https://datasheet.ciiva.com/17091/0900766b80ed226c-17091155.pdf?src-supplier=Allied+Electronics; ComponentLink3Description: https://datasheet.ciiva.com/17091/0900766b80ed226c-17091155.pdf?src-supplier=Allied+Electronics; ComponentLink4URL: https://datasheet.ciiva.com/2015/cd00000966-2015458.pdf?src-supplier=Digikey; ComponentLink4Description: https://datasheet.ciiva.com/2015/cd00000966-2015458.pdf?src-supplier=Digikey; ComponentLink5URL: https://datasheet.ciiva.com/2015/cd00000966-2015459.pdf?src-supplier=Digikey; ComponentLink5Description: https://datasheet.ciiva.com/2015/cd00000966-2015459.pdf?src-supplier=Digikey; ComponentLink6URL: https://datasheet.ciiva.com/8197/cd00000966-8197558.pdf?src-supplier=Avnet; ComponentLink6Description: https://datasheet.ciiva.com/8197/cd00000966-8197558.pdf?src-supplier=Avnet; ComponentLink7URL: https://datasheet.ciiva.com/16361/cd00000966-16361433.pdf?src-supplier=Future+Electronics; ComponentLink7Description: https://datasheet.ciiva.com/16361/cd00000966-16361433.pdf?src-supplier=Future+Electronics
footprint PWM Controller UC3844 SMD 01
footprint PWM Controller UC3844 DIP 01
pins: 1 COMP, 2 VFB, 3 ISENSE, 4 RT/CT, 5 GND, 6 OUTPUT, 7 VCC, 8 VREF

## Resistor
designator R?, comment value ? K  (hidden comment: (DIGIKEY Part Number))
Through Hole & SMD; Published: 8-Jun-2000; LatestRevisionDate: 17-Jul-2002; LatestRevisionNote: Re-released for DXP Platform.; PackageReference: AXIAL-0.3; Publisher: Altium Limited; PackageDescription: Axial Device, Thru-Hole; 2 Leads; 0.3 in Pin Spacing
footprint Resistor DIP 0.25W 01
footprint Resistor DIP 0.25W 02
footprint Resistor DIP 2W
footprint Resistor DIP 3W
footprint Resistor DIP 3W VERTICAL
footprint Resistor SMD 1206
footprint Resistor SMD 1210
footprint Resistor SMD 2512
footprint Resistor SMD 805
footprint Resistor SMD 2010
footprint Resistor SMD 1206 MELF 01
pins: 1, 2

## Resistor Variable
designator R?, comment (DIGIKEY Part Number)  (value not drawn)
Trimmer Potentiometer Cermet Top Adjustment; Set Position: 0.5; Value: 20K; Published: 8-Jun-2000; LatestRevisionDate: 17-Jul-2002; LatestRevisionNote: Re-released for DXP Platform.; PackageReference: AXIAL-0.7; Publisher: Altium Limited; PackageDescription: Axial Device, Thru-Hole; 2 Leads; 0.7 in Pin Spacing; Supplier 1: Digi-Key; Supplier Part Number 1: 3252W-103LF-ND
footprint Resistor Variable DIP 01
footprint Resistor Variable DIP 02
footprint Resistor Variable DIP 03
footprint Resistor Variable DIP 04
pins: 1, 2, 3

## Spacer & Pitch
designator P?, comment Spacer  (value not drawn)
Spacer & Pitch
footprint Spacer 30mm

## Switch
designator S?, comment (DIGIKEY Part Number)  (value not drawn)
Switch; Published: 24-Mar-1999; LatestRevisionDate: 17-Jul-2002; LatestRevisionNote: Re-released for DXP Platform.; PackageReference: SPST-2; Publisher: Altium Limited; PackageDescription: Switch; 2 Leads; Supplier 1: Mouser; Supplier Part Number 1: 511-LD1117DT33
footprint Switch SMD 4 PIN 01
pins: 1, 2

## TL431
designator U?, comment (DIGIKEY Part Number)  (value not drawn)
Shunt Voltage Reference IC; MP: TL431ILP; MF: Microsemi Corporation; Availability: Unavailable; Price: None; Package: TO-92 Microsemi Corporation; DigiKey-Purchase-URL: https://snapeda.com/shop?store=DigiKey&id=187631; SnapEDA_Link: https://www.snapeda.com/parts/TL431ILP/Microsemi%20Corporation/view-part/187631/?ref=snap; Value: *; Supplier 1: Digi-Key; Supplier Part Number 1: 497-16221-ND
footprint TL431 DIP 02
footprint TL431 SMD 01
footprint TL431 SMD 02
footprint TL431 DIP 01
pins: 1 REF, 2 A, 3 C

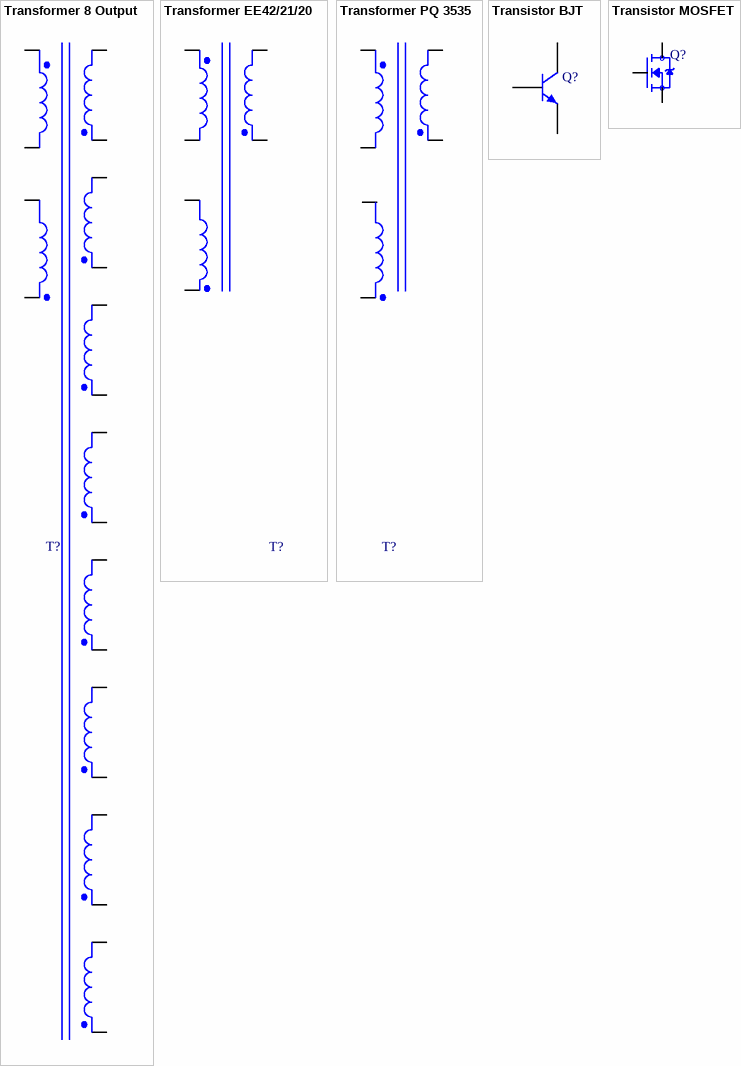
[diagram p1: symbols Transformer 8 Output to Transistor MOSFET]

## Transformer 8 Output
designator T?  (value not drawn)
Transformer (Ideal); Published: 25-Jan-2001; LatestRevisionDate: 17-Jul-2002; LatestRevisionNote: Re-released for DXP Platform.; PackageReference: TRF_8; Publisher: Altium Limited; PackageDescription: Transformer; 8 Leads
footprint Transformer EE25/19-Z 8 Outputs 01
footprint Transformer EE25/19-Z 8 Outputs 02
pins: 1, 2, 3, 4, 5, 6, 7, 8, 9, 10, 11, 12, 13, 14, 15, 16, 17, 18, 19, 20

## Transformer EE42/21/20
designator T?, comment Transformer  (value not drawn)
Transformer (Ideal); Published: 25-Jan-2001; LatestRevisionDate: 17-Jul-2002; LatestRevisionNote: Re-released for DXP Platform.; PackageReference: TRF_8; Publisher: Altium Limited; PackageDescription: Transformer; 8 Leads
footprint Transformer EE42/21/20
pins: 1, 2, 3, 4, 5 3, 6

## Transformer PQ 3535
designator T?, comment Transformer  (value not drawn)
Transformer (Ideal); Published: 25-Jan-2001; LatestRevisionDate: 17-Jul-2002; LatestRevisionNote: Re-released for DXP Platform.; PackageReference: TRF_8; Publisher: Altium Limited; PackageDescription: Transformer; 8 Leads
footprint Transformer PQ3535
pins: 1, 2, 3, 4, 5 3, 6

## Transistor BJT
designator Q?, comment (DIGIKEY Part Number)  (value not drawn)
NPN General Purpose BJT; Published: 8-Jun-2000; LatestRevisionDate: 15-Jan-2003; LatestRevisionNote: PCB Footprint 'BCY-W3/D4.7' replaced; DatasheetVersion: 1997; PackageVersion: Sep-1998; PackageReference: TO-92A; Publisher: Altium Limited; PackageDescription: TO, Flat Index; 3 In-Line, Axial Leads; Body Dia. 4.5mm; Leads 0.51 x 0.48 mm (max); ComponentLink1Description: Manufacturer Link; ComponentLink1URL: http://www.fairchildsemi.com/; ComponentLink2Description: Datasheet; ComponentLink2URL: http://www.fairchildsemi.com/ds/2N%2F2N3904.pdf
footprint BJT NPN SMD SOT-23
footprint BJT NPN DIP TO-220
footprint BJT NPN SMD DPAK TO-252
pins: 1 B, 2 E, 3 C

## Transistor MOSFET
designator Q?, comment (DIGIKEY Part Number)  (value not drawn)
N-Channel MOSFET; MP: FDN360P; MF: ON Semiconductor; Check_prices: https://www.snapeda.com/parts/FDN360P/ON%20Semiconductor/view-part/2105995/?ref=eda; Price: None; Purchase-URL: https://pricing.snapeda.com/search/part/FDN360P/?ref=eda; Availability: Good; Package: SC-59 ON Semiconductor; SnapEDA_Link: https://www.snapeda.com/parts/FDN360P/ON%20Semiconductor/view-part/2105995/?ref=snap; Value: *
footprint MOSFET DIP TO-220
footprint MOSFET DIP TO-247
footprint MOSFET SMD TO-252
footprint MOSFET SMD TO-263
pins: 1 G, 2 D, 3 S